# EAGLE library part LPC210X (library lqfp48)
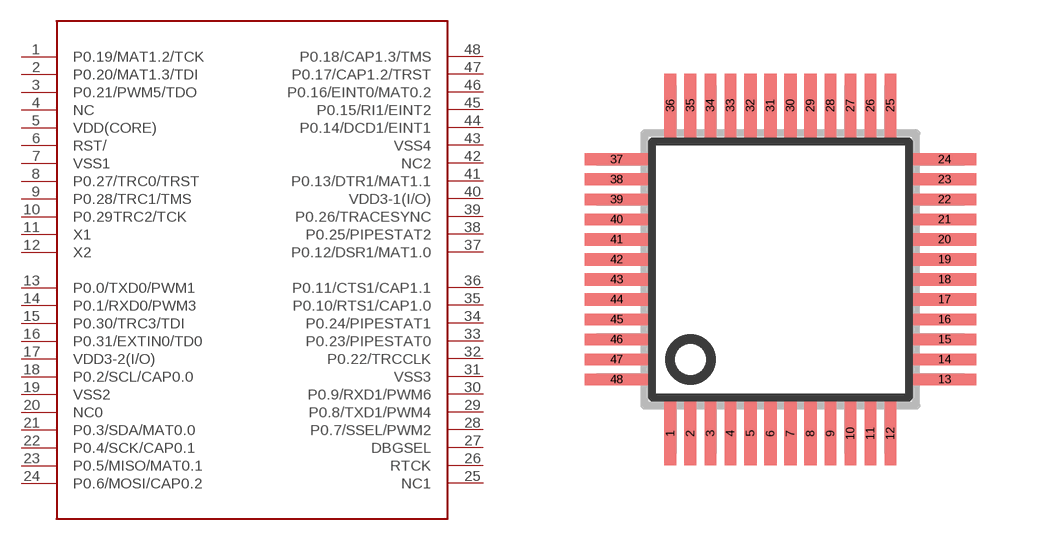
[diagram p0: symbol with the pads of QFP48; footprint QFP48]

Designator prefix -

## LPC210X  [QFP48]
1  P0.19/MAT1.2/TCK
2  P0.20/MAT1.3/TDI
3  P0.21/PWM5/TDO
4  NC
5  VDD(CORE)
6  RST/
7  VSS1
8  P0.27/TRC0/TRST
9  P0.28/TRC1/TMS
10  P0.29TRC2/TCK
11  X1
12  X2
13  P0.0/TXD0/PWM1
14  P0.1/RXD0/PWM3
15  P0.30/TRC3/TDI
16  P0.31/EXTIN0/TD0
17  VDD3-2(I/O)
18  P0.2/SCL/CAP0.0
19  VSS2
20  NC0
21  P0.3/SDA/MAT0.0
22  P0.4/SCK/CAP0.1
23  P0.5/MISO/MAT0.1
24  P0.6/MOSI/CAP0.2
25  NC1
26  RTCK
27  DBGSEL
28  P0.7/SSEL/PWM2
29  P0.8/TXD1/PWM4
30  P0.9/RXD1/PWM6
31  VSS3
32  P0.22/TRCCLK
33  P0.23/PIPESTAT0
34  P0.24/PIPESTAT1
35  P0.10/RTS1/CAP1.0
36  P0.11/CTS1/CAP1.1
37  P0.12/DSR1/MAT1.0
38  P0.25/PIPESTAT2
39  P0.26/TRACESYNC
40  VDD3-1(I/O)
41  P0.13/DTR1/MAT1.1
42  NC2
43  VSS4
44  P0.14/DCD1/EINT1
45  P0.15/RI1/EINT2
46  P0.16/EINT0/MAT0.2
47  P0.17/CAP1.2/TRST
48  P0.18/CAP1.3/TMS

## Footprint QFP48 (pad centres in mm)
smd 0.3 x 1.6: 1 -2.75,-4.1; 2 -2.25,-4.1; 3 -1.75,-4.1; 4 -1.25,-4.1; 5 -0.75,-4.1; 6 -0.25,-4.1; 7 0.25,-4.1; 8 0.75,-4.1; 9 1.25,-4.1; 10 1.75,-4.1; 11 2.25,-4.1; 12 2.75,-4.1; 25 2.75,4.1; 26 2.25,4.1; 27 1.75,4.1; 28 1.25,4.1; 29 0.75,4.1; 30 0.25,4.1; 31 -0.25,4.1; 32 -0.75,4.1; 33 -1.25,4.1; 34 -1.75,4.1; 35 -2.25,4.1; 36 -2.75,4.1
smd 1.6 x 0.3: 13 4.1,-2.75; 14 4.1,-2.25; 15 4.1,-1.75; 16 4.1,-1.25; 17 4.1,-0.75; 18 4.1,-0.25; 19 4.1,0.25; 20 4.1,0.75; 21 4.1,1.25; 22 4.1,1.75; 23 4.1,2.25; 24 4.1,2.75; 37 -4.1,2.75; 38 -4.1,2.25; 39 -4.1,1.75; 40 -4.1,1.25; 41 -4.1,0.75; 42 -4.1,0.25; 43 -4.1,-0.25; 44 -4.1,-0.75; 45 -4.1,-1.25; 46 -4.1,-1.75; 47 -4.1,-2.25; 48 -4.1,-2.75